# Altium integrated library WL-SBCW SMD BI-Color Chip LED waterclear.IntLib: 2 symbols
Pins are listed as number, name and electrical type; pins without a type are passive.

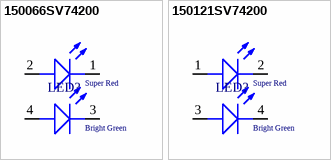
[diagram p0: symbols 150066SV74200 to 150121SV74200]

## 150066SV74200
designator LED?
SMD Bi-Color Chip LED waterclear, WL-SBCW , Super Red & Bright Green; PartNumber: 150066SV74200; PackageReference: WL-SBCW 0606; Color: Super Red & Bright Green; ComponentLink1Description: Manufacturer URL; ComponentLink1URL: http://www.we-online.com; ComponentLink2Description: Datasheet; ComponentLink2URL: http://katalog.we-online.com/led/datasheet/150066SV74200.pdf
footprint WL-SBCW 0606 (SMD-LED, Body 1.6x1.6mm)
pins: 1 K, 2 A, 3 K, 4 A
1 alternate drawing of the same symbol
text: Super Red; Bright Green

## 150121SV74200
designator LED?
SMD Bi-Color Chip LED waterclear, WL-SBCW , Super Red & Bright Green; PartNumber: 150121SV74200; PackageReference: WL-SBCW 1210; Color: Super Red & Bright Green; ComponentLink1Description: Manufacturer URL; ComponentLink1URL: http://www.we-online.com; ComponentLink2Description: Datasheet; ComponentLink2URL: http://katalog.we-online.com/led/datasheet/150121SV74200.pdf
footprint WL-SBCW 1210 (SMD-LED, Body 3.2x2.7mm)
pins: 1 A, 2 K, 3 A, 4 K
1 alternate drawing of the same symbol
text: Super Red; Bright Green